# Altium schematic symbol library GD32H759IMT6 V12.SCHLIB: 27 symbols
Pins are listed as number, name and electrical type; pins without a type are passive.

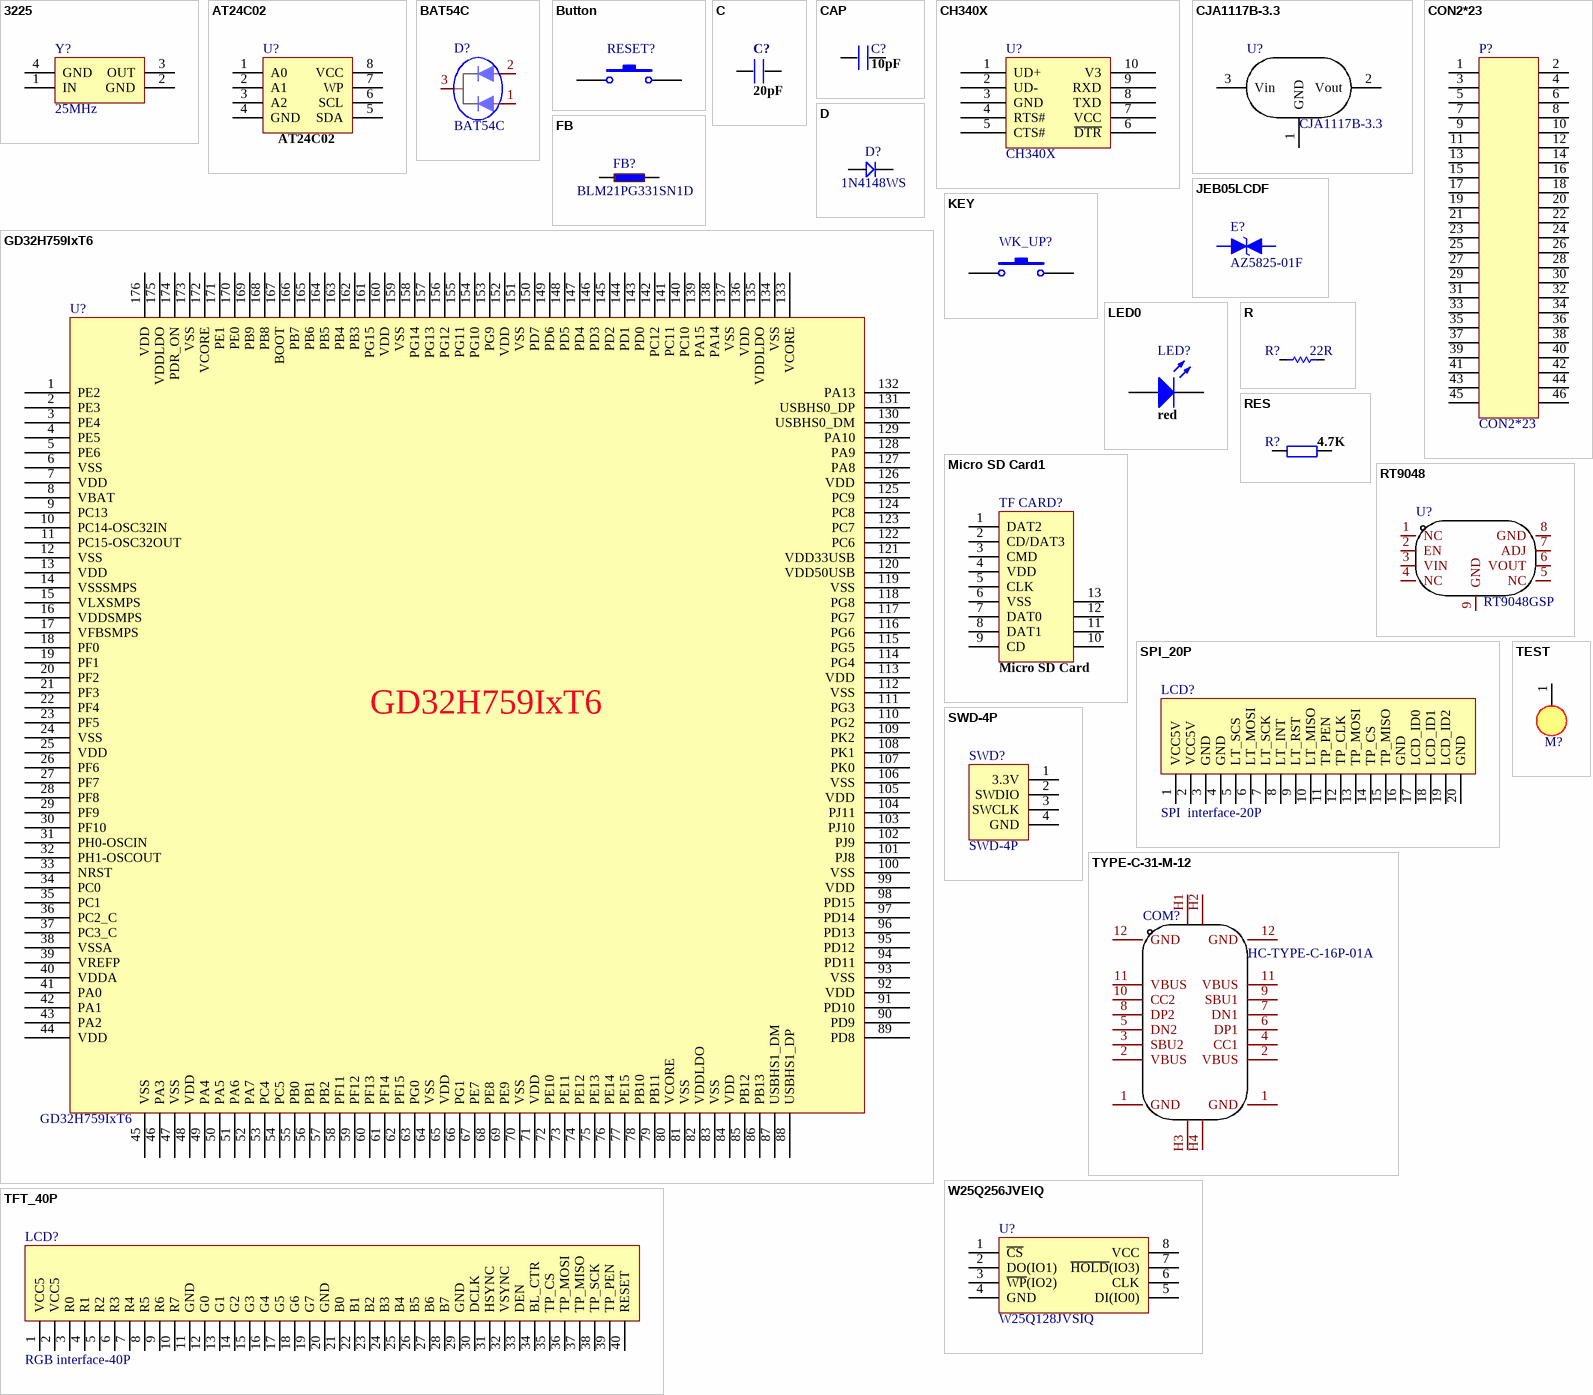
[diagram p0: symbols 3225 to W25Q256JVEIQ]

## 3225
designator Y?, comment 25MHz
footprint 3225
pins: 1 IN, 2 GND, 3 OUT, 4 GND

## AT24C02
designator U?
footprint SOP-8
pins: 1 A0, 2 A1, 3 A2, 4 GND, 5 SDA, 6 SCL, 7 WP, 8 VCC

## BAT54C
designator D?
footprint BAT54C
pins: 1 A1, 2 A2, 3 K

## Button
designator RESET?
footprint KEY_M
footprint TSW SMD-3*4*2.5
pins: 1, 2

## C
designator C?, comment 20pF
footprint 0603P
footprint 0805
footprint CC5.08 (CAP0.1)
footprint CC4.572 (222/332)
footprint 1206
footprint 1210
footprint CC6.096
footprint CC7.62
footprint 0603P
footprint 0402P
footprint 0603P
footprint 0402P
pins: 1, 2

## CAP
designator C?, comment 10pF
footprint 0603P
footprint 0805
footprint 0402P
pins: 1, 2

## CH340X
designator U?
footprint TYPE-C-31-M-12
footprint MSOP-10
pins: 1 UD+, 2 UD-, 3 GND, 4 RTS#, 5 CTS#, 6 ~{DTR}, 7 VCC, 8 TXD, 9 RXD, 10 V3

## CJA1117B-3.3
designator U?
footprint CJA1117B
pins: 1 GND, 2 Vout, 3 Vin

## CON2*23
designator P?
footprint HEADER23*2
pins: 1, 2, 3, 4, 5, 6, 7, 8, 9, 10, 11, 12, 13, 14, 15, 16, 17, 18, 19, 20, 21, 22, 23, 24, 25, 26, 27, 28, 29, 30, 31, 32, 33, 34, 35, 36, 37, 38, 39, 40, 41, 42, 43, 44, 45, 46

## D
designator D?, comment 1N4148WS
footprint SOD-123
footprint DIODE_SOP
footprint DIODE-L (6A10)
footprint DIODE-M (1N5822)
footprint DIODE_S (1N4007)
footprint DIODE_3*5.3 (ME:SS14/SS24;L:5.3mm;W:3mm;)
footprint DIODE_4*5.6 (ME:RS2J.L:5.6mm;W:4mm)
footprint DIODE_6.2*8.13 (ME:RS2J.L:8.13mm;W:6.2mm)
footprint DIODE_SOP
footprint SOD-323
pins: 1, 2

## FB
designator FB?, comment BLM21PG331SN1D
footprint 0603P
footprint 0805P
pins: 1, 2

## GD32H759IxT6
designator U?
footprint LQFP176
pins: 1 PE2, 2 PE3, 3 PE4, 4 PE5, 5 PE6, 6 VSS, 7 VDD, 8 VBAT, 9 PC13, 10 PC14-OSC32IN, 11 PC15-OSC32OUT, 12 VSS, 13 VDD, 14 VSSSMPS, 15 VLXSMPS, 16 VDDSMPS, 17 VFBSMPS, 18 PF0, 19 PF1, 20 PF2, 21 PF3, 22 PF4, 23 PF5, 24 VSS, 25 VDD, 26 PF6, 27 PF7, 28 PF8, 29 PF9, 30 PF10, 31 PH0-OSCIN, 32 PH1-OSCOUT, 33 NRST, 34 PC0, 35 PC1, 36 PC2_C, 37 PC3_C, 38 VSSA, 39 VREFP, 40 VDDA, 41 PA0, 42 PA1, 43 PA2, 44 VDD, 45 VSS, 46 PA3, 47 VSS, 48 VDD, 49 PA4, 50 PA5, 51 PA6, 52 PA7, 53 PC4, 54 PC5, 55 PB0, 56 PB1, 57 PB2, 58 PF11, 59 PF12, 60 PF13, 61 PF14, 62 PF15, 63 PG0, 64 VSS, 65 VDD, 66 PG1, 67 PE7, 68 PE8, 69 PE9, 70 VSS, 71 VDD, 72 PE10, 73 PE11, 74 PE12, 75 PE13, 76 PE14, 77 PE15, 78 PB10, 79 PB11, 80 VCORE, 81 VSS, 82 VDDLDO, 83 VSS, 84 VDD, 85 PB12, 86 PB13, 87 USBHS1_DM, 88 USBHS1_DP, 89 PD8, 90 PD9, 91 PD10, 92 VDD, 93 VSS, 94 PD11, 95 PD12, 96 PD13, 97 PD14, 98 PD15, 99 VDD, 100 VSS, 101 PJ8, 102 PJ9, 103 PJ10, 104 PJ11, 105 VDD, 106 VSS, 107 PK0, 108 PK1, 109 PK2, 110 PG2, 111 PG3, 112 VSS, 113 VDD, 114 PG4, 115 PG5, 116 PG6, 117 PG7, 118 PG8, 119 VSS, 120 VDD50USB, 121 VDD33USB, 122 PC6, 123 PC7, 124 PC8, 125 PC9, 126 VDD, 127 PA8, 128 PA9, 129 PA10, 130 USBHS0_DM, 131 USBHS0_DP, 132 PA13, 133 VCORE, 134 VSS, 135 VDDLDO, 136 VDD, 137 VSS, 138 PA14, 139 PA15, 140 PC10, 141 PC11, 142 PC12, 143 PD0, 144 PD1, 145 PD2, 146 PD3, 147 PD4, 148 PD5, 149 PD6, 150 PD7, 151 VSS, 152 VDD, 153 PG9, 154 PG10, 155 PG11, 156 PG12, 157 PG13, 158 PG14, 159 VSS, 160 VDD, 161 PG15, 162 PB3, 163 PB4, 164 PB5, 165 PB6, 166 PB7, 167 BOOT, 168 PB8, 169 PB9, 170 PE0, 171 PE1, 172 VCORE, 173 VSS, 174 PDR_ON, 175 VDDLDO, 176 VDD

## JEB05LCDF
designator E?, comment AZ5825-01F
footprint DFN1006-2L-BI
pins: 1, 2

## KEY
designator WK_UP?
footprint KEY_M
footprint TSW SMD-3*4*2.5
pins: 1, 2

## LED0
designator LED?, comment red
Typical INFRARED GaAs LED; Published: 8-Jun-2000; LatestRevisionDate: 08-Jul-2005; LatestRevisionNote: Mech Layer 1 removed.; PackageReference: LED-0; Publisher: Altium Limited
footprint LED-0 (Typical INFRARED GaAs LED; 2 Leads)
simulation model LED0 (Diode)
footprint SMDLED
pins: 1 A, 2 K

## Micro SD Card1
designator TF CARD?, comment Micro SD Card
footprint TF Card
pins: 1 DAT2, 2 CD/DAT3, 3 CMD, 4 VDD, 5 CLK, 6 VSS, 7 DAT0, 8 DAT1, 9 CD, 10, 11, 12, 13

## R
designator R?, comment 22R
footprint 0402P
pins: 1, 2

## RES
designator R?, comment 4.7K
footprint 0805
footprint 0603P
footprint 0402P
pins: 1, 2

## RT9048
designator U?, comment RT9048GSP
footprint ESOP-8
pins: 1 NC, 2 EN, 3 VIN, 4 NC, 5 NC, 6 VOUT, 7 ADJ, 8 GND, 9 GND

## SPI_20P
designator LCD?, comment SPI  interface-20P
footprint HEADER10*2
footprint FPC-20P-0.5mm
footprint FH12-20S-0.5SH
pins: 1 VCC5V, 2 VCC5V, 3 GND, 4 GND, 5 LT_SCS, 6 LT_MOSI, 7 LT_SCK, 8 LT_INT, 9 LT_RST, 10 LT_MISO, 11 TP_PEN, 12 TP_CLK, 13 TP_MOSI, 14 TP_CS, 15 TP_MISO, 16 GND, 17 LCD_ID0, 18 LCD_ID1, 19 LCD_ID2, 20 GND

## SWD-4P
designator SWD?
footprint A2001WR-S-4P
pins: 1 3.3V, 2 SWDIO, 3 SWCLK, 4 GND

## TEST
designator M?
footprint SMTSO-M2.5-6ET
footprint SMTSO-M2.5-6ET-1
footprint M3-5.4mm
footprint M3-5.3mm
pins: 1

## TFT_40P
designator LCD?, comment RGB interface-40P
footprint Connector-40P
footprint 4.3TFT-40P
footprint FPC-40P-0.5P
footprint 0.5K-DX-40PWB
footprint 0.5K-DX-40PWB-1
pins: 1 VCC5, 2 VCC5, 3 R0, 4 R1, 5 R2, 6 R3, 7 R4, 8 R5, 9 R6, 10 R7, 11 GND, 12 G0, 13 G1, 14 G2, 15 G3, 16 G4, 17 G5, 18 G6, 19 G7, 20 GND, 21 B0, 22 B1, 23 B2, 24 B3, 25 B4, 26 B5, 27 B6, 28 B7, 29 GND, 30 DCLK, 31 HSYNC, 32 VSYNC, 33 DEN, 34 BL_CTR, 35 TP_CS, 36 TP_MOSI, 37 TP_MISO, 38 TP_SCK, 39 TP_PEN, 40 RESET

## TYPE-C-31-M-12
designator COM?, comment HC-TYPE-C-16P-01A
footprint TYPE-C-31-M-12
pins: 1 GND, 1 GND, 2 VBUS, 2 VBUS, 3 SBU2, 4 CC1, 5 DN2, 6 DP1, 7 DN1, 8 DP2, 9 SBU1, 10 CC2, 11 VBUS, 11 VBUS, 12 GND, 12 GND, H1, H2, H3, H4

## W25Q256JVEIQ
designator U?, comment W25Q128JVSIQ
footprint SOIC-8
pins: 1 ~{CS}, 2 DO(IO1), 3 ~{WP}(IO2), 4 GND, 5 DI(IO0), 6 CLK, 7 ~{HOLD}(IO3), 8 VCC

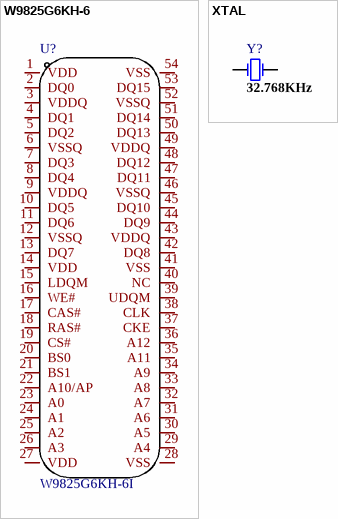
[diagram p1: symbols W9825G6KH-6 to XTAL]

## W9825G6KH-6
designator U?, comment W9825G6KH-6I
footprint TSOP-54
pins: 1 VDD, 2 DQ0, 3 VDDQ, 4 DQ1, 5 DQ2, 6 VSSQ, 7 DQ3, 8 DQ4, 9 VDDQ, 10 DQ5, 11 DQ6, 12 VSSQ, 13 DQ7, 14 VDD, 15 LDQM, 16 WE#, 17 CAS#, 18 RAS#, 19 CS#, 20 BS0, 21 BS1, 22 A10/AP, 23 A0, 24 A1, 25 A2, 26 A3, 27 VDD, 28 VSS, 29 A4, 30 A5, 31 A6, 32 A7, 33 A8, 34 A9, 35 A11, 36 A12, 37 CKE, 38 CLK, 39 UDQM, 40 NC, 41 VSS, 42 DQ8, 43 VDDQ, 44 DQ9, 45 DQ10, 46 VSSQ, 47 DQ11, 48 DQ12, 49 VDDQ, 50 DQ13, 51 DQ14, 52 VSSQ, 53 DQ15, 54 VSS

## XTAL
designator Y?, comment 32.768KHz
footprint XTAL32
footprint 3215-2P
pins: 1 OSC1, 2 OSC2